# Altium footprint library CM4IO.PcbLib: 11 footprints
Each footprint in its own frame and in the unit in brackets; x right, y up, seen from the top. Pads: shape width x height; smd on the part's side, far side on the other; paste and mask are expansions set on the pad; w line width, h text height; cw(c..) or ccw(c..) is an arc to the next point about the centre after c.
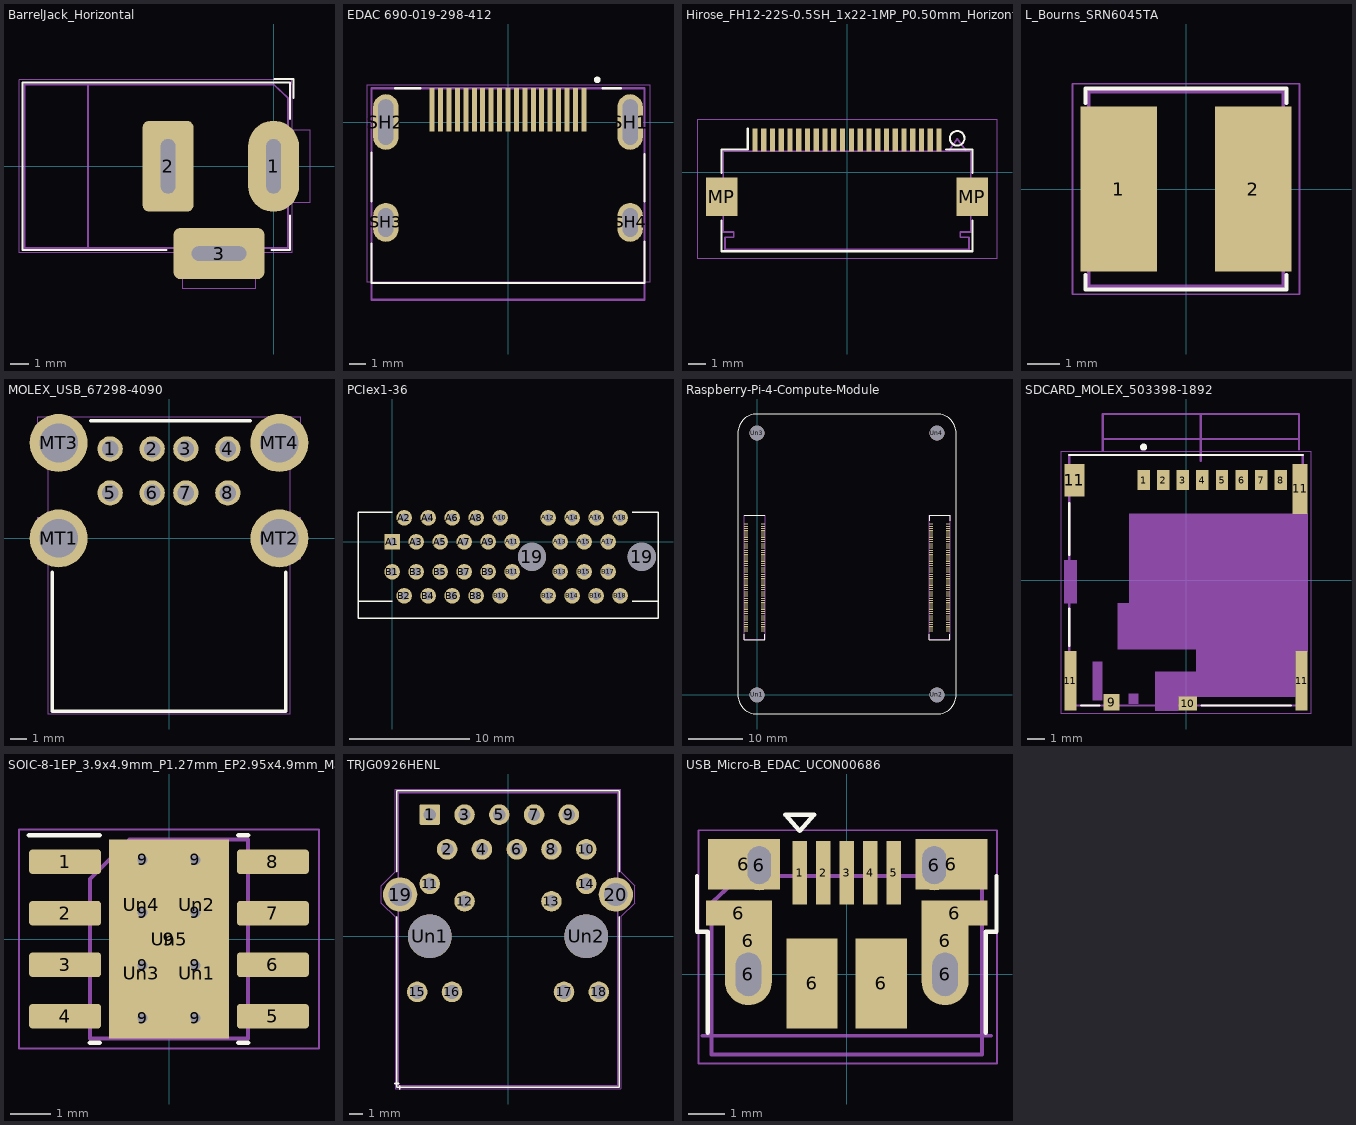
[diagram p0: the footprints below, top view; thin cyan lines are the x and y axes]

## BarrelJack_Horizontal [mm]
pads (3):
  rrect100% 2.8x5 hole 3 slot 0.8 at 0 deg: 1(0,0)
  rrect25% 2.8x5 hole 3 slot 0.8 at 0 deg: 2(-5.8,0)
  rrect25% 5x2.8 hole 0.8 slot 3 at 0 deg: 3(-3,-4.8)
F.SilkS:
  lines w0.12: -5.9,-4.6 -13.8,-4.6 -13.8,4.6 0.9,4.6 0.9,2.6 ; -0.1,-4.6 0.9,-4.6 0.9,-2.7 ; 0.05,4.8 1.1,4.8 1.1,3.75
F.CrtYd:
  lines w0.05: -14,-4.75 -5,-4.75 -5,-6.75 -1,-6.75 -1,-4.75 1,-4.75 1,-2 2,-2 2,2 1,2 1,4.5 1,4.75 -14,4.75 -14,-4.75
F.Fab:
  lines w0.1: -10.2,-4.5 -10.2,4.5 ; -0.003,4.505 0.8,3.75 0.8,-4.5 -13.7,-4.5 -13.7,4.5 0,4.5
  text "'.Designator'" at -4.862,2.532 h1

## EDAC 690-019-298-412 [mm]
pads (23):
  rect 0.3x2.6 smd: 1(4.5,0.73) 2(4,0.73) 3(3.5,0.73) 4(3,0.73) 5(2.5,0.73) 6(2,0.73) 7(1.5,0.73) 8(1,0.73) 9(0.5,0.73) 10(0,0.73) 11(-0.5,0.73) 12(-1,0.73) 13(-1.5,0.73) 14(-2,0.73) 15(-2.5,0.73) 16(-3,0.73) 17(-3.5,0.73) 18(-4,0.73) 19(-4.5,0.73)
  rrect100% 1.5x3.3 hole 2.7 slot 0.9 at 0 deg: SH1(7.25,0) SH2(-7.25,0)
  rrect100% 1.5x2.3 hole 1.7 slot 0.9 at 0 deg: SH3(-7.25,-5.96) SH4(7.25,-5.96)
F.SilkS:
  circle w0.2: c5.3,2.5 r0.1
  lines w0.127: -8.1,-7.2 -8.1,-9.55 8.1,-9.55 8.1,-7.1 ; -8.1,-4.7 -8.1,-1.8 ; -6.7,2 -5.2,2 ; 5.6,2 6.7,2 ; 8.1,-4.7 8.1,-1.9
Eco1.User:
  lines w0.05: -8.35,-9.5 -8.35,-8.5 -8.35,2.2 8.4,2.2 8.4,-9.5 -8.35,-9.5
Eco2.User:
  lines w0.127: -8.1,-10.55 -8.1,-8.5 -8.1,2 8.1,2 8.1,-8.5 8.1,-10.55 -8.1,-10.55

## Hirose_FH12-22S-0.5SH_1x22-1MP_P0.50mm_Horizontal [mm]
pads (24):
  rect 0.3x1.3 smd: 1(5.25,1.85) 2(4.75,1.85) 3(4.25,1.85) 4(3.75,1.85) 5(3.25,1.85) 6(2.75,1.85) 7(2.25,1.85) 8(1.75,1.85) 9(1.25,1.85) 10(0.75,1.85) 11(0.25,1.85) 12(-0.25,1.85) 13(-0.75,1.85) 14(-1.25,1.85) 15(-1.75,1.85) 16(-2.25,1.85) 17(-2.75,1.85) 18(-3.25,1.85) 19(-3.75,1.85) 20(-4.25,1.85) 21(-4.75,1.85) 22(-5.25,1.85)
  rect 1.8x2.2 smd: MP(-7.15,-1.4) MP(7.15,-1.4)
F.SilkS:
  circle w0.12: c6.28,1.94 r0.414
  lines w0.12: -7.15,-2.76 -7.15,-4.5 7.15,-4.5 7.15,-2.76 ; -7.15,-0.04 -7.15,1.3 -5.66,1.3 -5.66,2.5 ; 5.66,1.3 7.15,1.3 7.15,-0.04
F.CrtYd:
  lines w0.05: -8.55,-4.9 -8.55,3 8.55,3 8.55,-4.9 -8.55,-4.9
F.Fab:
  lines w0.1: 5.79,1.203 6.29,1.91 6.79,1.203 ; -7.05,-3.4 -7.05,1.2 0,1.2 7.05,1.2 7.05,-3.4 6.45,-3.4 6.45,-3.7 6.95,-3.7 6.95,-4.4 0,-4.4 -6.95,-4.4 -6.95,-3.7 -6.45,-3.7 -6.45,-3.4 -7.05,-3.4
  text "'.Designator'" at -1.862,-4.118 h1

## L_Bourns_SRN6045TA [mm]
pads (2):
  rect 2.35x5.1 smd: 1(-2.075,0) 2(2.075,0)
F.SilkS:
  lines w0.12: -3.1,-2.65 -3.1,-3.1 3.1,-3.1 3.1,-2.65 ; -3.1,2.65 -3.1,3.1 3.1,3.1 3.1,2.65
F.CrtYd:
  lines w0.05: -3.5,-3.25 3.5,-3.25 3.5,3.25 -3.5,3.25 -3.5,-3.25
F.Fab:
  lines w0.1: -3,-3 3,-3 3,3 -3,3 -3,-3
  text "'.Designator'" at 0.418,-1.862 h1

## MOLEX_USB_67298-4090 [mm]
pads (12):
  round 1.5 hole 1: 1(-3.5,5.33) 2(-1,5.33) 3(1,5.33) 4(3.5,5.33) 5(-3.5,2.71) 6(-1,2.71) 7(1,2.71) 8(3.5,2.71)
  round 3.45 hole 2.3: MT1(-6.57,0) MT2(6.57,0) MT3(-6.57,5.68) MT4(6.57,5.68)
F.SilkS:
  lines w0.2: -6.95,-2 -6.95,-10.29 6.95,-10.29 6.95,-2 ; -4.66,7 4.84,7
Eco1.User:
  lines w0.05: -7.8,-1.25 -7.8,1.25 -7.2,1.25 -7.2,4.5 -7.8,4.5 -7.8,7.25 7.8,7.25 7.8,4.5 7.2,4.5 7.2,1.25 7.8,1.25 7.8,-1.25 7.2,-1.25 7.2,-10.45 -7.2,-10.45 -7.2,-1.25 -7.8,-1.25

## PCIex1-36 [mm]
pads (38):
  round 2.35 hole 2.35: 19(11.65,-1.25) 19(20.8,-1.25)
  rect 1.3x1.3 hole 0.7: A1(0,0)
  round 1.3 hole 0.7: A2(1,2) A3(2,0) A4(3,2) A5(4,0) A6(5,2) A7(6,0) A8(7,2) A9(8,0) A10(9,2) A11(10,0) A12(13,2) A13(14,0) A14(15,2) A15(16,0) A16(17,2) A17(18,0) A18(19,2) B1(0,-2.5) B2(1,-4.5) B3(2,-2.5) B4(3,-4.5) B5(4,-2.5) B6(5,-4.5) B7(6,-2.5) B8(7,-4.5) B9(8,-2.5) B10(9,-4.5) B11(10,-2.5) B12(13,-4.5) B13(14,-2.5) B14(15,-4.5) B15(16,-2.5) B16(17,-4.5) B17(18,-2.5) B18(19,-4.5)
F.SilkS:
  lines w0.12: -2.85,-4.95 0,-4.95 ; 0,2.45 -2.85,2.45 -2.85,-6.35 22.15,-6.35 22.15,2.45 20,2.45 ; 20,-4.95 22.15,-4.95

## Raspberry-Pi-4-Compute-Module [mm]
pads (204):
  rect 0.7x0.2 smd: 1(-2,31.3) 2(1.08,31.3) 3(-2,30.9) 4(1.08,30.9) 5(-2,30.5) 6(1.08,30.5) 7(-2,30.1) 8(1.08,30.1) 9(-2,29.7) 10(1.08,29.7) 11(-2,29.3) 12(1.08,29.3) 13(-2,28.9) 14(1.08,28.9) 15(-2,28.5) 16(1.08,28.5) 17(-2,28.1) 18(1.08,28.1) 19(-2,27.7) 20(1.08,27.7) 21(-2,27.3) 22(1.08,27.3) 23(-2,26.9) 24(1.08,26.9) 25(-2,26.5) 26(1.08,26.5) 27(-2,26.1) 28(1.08,26.1) 29(-2,25.7) 30(1.08,25.7) 31(-2,25.3) 32(1.08,25.3) 33(-2,24.9) 34(1.08,24.9) 35(-2,24.5) 36(1.08,24.5) 37(-2,24.1) 38(1.08,24.1) 39(-2,23.7) 40(1.08,23.7) 41(-2,23.3) 42(1.08,23.3) 43(-2,22.9) 44(1.08,22.9) 45(-2,22.5) 46(1.08,22.5) 47(-2,22.1) 48(1.08,22.1) 49(-2,21.7) 50(1.08,21.7) 51(-2,21.3) 52(1.08,21.3) 53(-2,20.9) 54(1.08,20.9) 55(-2,20.5) 56(1.08,20.5) 57(-2,20.1) 58(1.08,20.1) 59(-2,19.7) 60(1.08,19.7) 61(-2,19.3) 62(1.08,19.3) 63(-2,18.9) 64(1.08,18.9) 65(-2,18.5) 66(1.08,18.5) 67(-2,18.1) 68(1.08,18.1) 69(-2,17.7) 70(1.08,17.7) 71(-2,17.3) 72(1.08,17.3) 73(-2,16.9) 74(1.08,16.9) 75(-2,16.5) 76(1.08,16.5) 77(-2,16.1) 78(1.08,16.1) 79(-2,15.7) 80(1.08,15.7) 81(-2,15.3) 82(1.08,15.3) 83(-2,14.9) 84(1.08,14.9) 85(-2,14.5) 86(1.08,14.5) 87(-2,14.1) 88(1.08,14.1) 89(-2,13.7) 90(1.08,13.7) 91(-2,13.3) 92(1.08,13.3) 93(-2,12.9) 94(1.08,12.9) 95(-2,12.5) 96(1.08,12.5) 97(-2,12.1) 98(1.08,12.1) 99(-2,11.7) 100(1.08,11.7) 101(31.92,31.3) 102(35,31.3) 103(31.92,30.9) 104(35,30.9) 105(31.92,30.5) 106(35,30.5) 107(31.92,30.1) 108(35,30.1) 109(31.92,29.7) 110(35,29.7) 111(31.92,29.3) 112(35,29.3) 113(31.92,28.9) 114(35,28.9) 115(31.92,28.5) 116(35,28.5) 117(31.92,28.1) 118(35,28.1) 119(31.92,27.7) 120(35,27.7) 121(31.92,27.3) 122(35,27.3) 123(31.92,26.9) 124(35,26.9) 125(31.92,26.5) 126(35,26.5) 127(31.92,26.1) 128(35,26.1) 129(31.92,25.7) 130(35,25.7) 131(31.92,25.3) 132(35,25.3) 133(31.92,24.9) 134(35,24.9) 135(31.92,24.5) 136(35,24.5) 137(31.92,24.1) 138(35,24.1) 139(31.92,23.7) 140(35,23.7) 141(31.92,23.3) 142(35,23.3) 143(31.92,22.9) 144(35,22.9) 145(31.92,22.5) 146(35,22.5) 147(31.92,22.1) 148(35,22.1) 149(31.92,21.7) 150(35,21.7) 151(31.92,21.3) 152(35,21.3) 153(31.92,20.9) 154(35,20.9) 155(31.92,20.5) 156(35,20.5) 157(31.92,20.1) 158(35,20.1) 159(31.92,19.7) 160(35,19.7) 161(31.92,19.3) 162(35,19.3) 163(31.92,18.9) 164(35,18.9) 165(31.92,18.5) 166(35,18.5) 167(31.92,18.1) 168(35,18.1) 169(31.92,17.7) 170(35,17.7) 171(31.92,17.3) 172(35,17.3) 173(31.92,16.9) 174(35,16.9) 175(31.92,16.5) 176(35,16.5) 177(31.92,16.1) 178(35,16.1) 179(31.92,15.7) 180(35,15.7) 181(31.92,15.3) 182(35,15.3) 183(31.92,14.9) 184(35,14.9) 185(31.92,14.5) 186(35,14.5) 187(31.92,14.1) 188(35,14.1) 189(31.92,13.7) 190(35,13.7) 191(31.92,13.3) 192(35,13.3) 193(31.92,12.9) 194(35,12.9) 195(31.92,12.5) 196(35,12.5) 197(31.92,12.1) 198(35,12.1) 199(31.92,11.7) 200(35,11.7)
  round 2.7 hole 2.7: Un1(0,0) Un2(33,0) Un3(0,48) Un4(33,48)
F.SilkS:
  lines w0.12: -2.35,11.1 -2.35,10.1 1.43,10.1 1.43,11.1 ; -2.35,32.9 1.43,32.9 ; 31.57,11.1 31.57,10.1 35.35,10.1 35.35,11.1 ; 31.57,31.9 31.57,32.9 35.35,32.9 35.35,31.9 ; -3.5,0 -3.5,48 cw(c0,48) 0,51.5 33,51.5 cw(c33,48) 36.5,48 36.5,0 cw(c33,0) 33,-3.5 0,-3.5 cw(c0,0) -3.5,0
F.CrtYd:
  lines w0.12: -2.35,10.1 1.43,10.1 1.43,32.9 -2.35,32.9 -2.35,10.1 ; 31.57,10.1 31.57,32.9 35.35,32.9 35.35,10.1 31.57,10.1

## SDCARD_MOLEX_503398-1892 [mm]
pads (14):
  rect 0.7x1.1 smd: 1(-2.38,5.625) 2(-1.28,5.625) 3(-0.18,5.625) 4(0.92,5.625) 5(2.02,5.625) 6(3.12,5.625) 7(4.22,5.625) 8(5.32,5.625)
  rect 0.9x0.93 smd: 9(-4.17,-6.84)
  rect 1.05x0.78 smd: 10(0.095,-6.915)
  rect 0.7x3.33 smd: 11(-6.48,-5.64) 11(6.48,-5.64)
  rect 1.14x1.83 smd: 11(-6.26,5.61)
  rect 0.86x2.8 smd: 11(6.4,5.125)
F.SilkS:
  circle w0.2: c-2.38,7.475 r0.1
  lines w0.127: -6.55,-3.675 -6.55,-1.575 ; -6.55,1.425 -6.55,4.325 ; -6.55,7.025 6.55,7.025 ; -5.876,-7.025 -4.874,-7.025 ; 0.874,-7.025 5.876,-7.025
Dwgs.User:
  region: -4.685,-6.738 -5.245,-6.738 -5.245,-4.575 -4.685,-4.575
  region: -6.13,-1.276 -6.836,-1.276 -6.836,1.125 -6.13,1.125
  region: -2.67,-6.93 -3.223,-6.93 -3.223,-6.375 -2.67,-6.375
  region: 6.83,-3.975 6.13,-3.975 6.13,-6.525 -0.43,-6.525 -0.43,-7.305 -1.73,-7.305 -1.73,-5.125 0.57,-5.125 0.57,-3.875 -3.82,-3.875 -3.82,-1.275 -3.17,-1.275 -3.17,3.725 6.83,3.725
  region: -6.13,-1.277 -6.842,-1.277 -6.842,1.125 -6.13,1.125
  region: -4.685,-6.73 -5.239,-6.73 -5.239,-4.575 -4.685,-4.575
  region: -2.67,-6.937 -3.225,-6.937 -3.225,-6.375 -2.67,-6.375
  region: 6.83,-3.975 6.13,-3.975 6.13,-6.525 -0.43,-6.525 -0.43,-7.305 -1.73,-7.305 -1.73,-5.125 0.57,-5.125 0.57,-3.875 -3.82,-3.875 -3.82,-1.275 -3.17,-1.275 -3.17,3.725 6.83,3.725
  lines w0.12: -4.67,7.28 -4.67,9.33 6.33,9.33 6.33,7.35 ; -4.67,7.93 6.33,7.93 ; 0.83,6.7 0.83,9.33
F.CrtYd:
  lines w0.05: -7,-7.5 7,-7.5 7,7.25 -7,7.25 -7,-7.5
F.Fab:
  circle w0.2: c-2.38,5.775 r0.1
  lines w0.127: -6.55,-7.025 6.55,-7.025 6.55,7.025 -6.55,7.025 -6.55,-7.025

## SOIC-8-1EP_3.9x4.9mm_P1.27mm_EP2.95x4.9mm_Mask2.71x3.4mm_ThermalVias [mm]
pads (23):
  rrect25% 1.775x0.6 smd: 1(-2.562,1.905) 2(-2.562,0.635) 3(-2.562,-0.635) 4(-2.562,-1.905) 5(2.562,-1.905) 6(2.562,-0.635) 7(2.562,0.635) 8(2.562,1.905)
  round 0.5 hole 0.25: 9(-0.65,-1.95) 9(-0.65,-0.65) 9(-0.65,0.65) 9(-0.65,1.95) 9(0.65,-1.95) 9(0.65,-0.65) 9(0.65,0.65) 9(0.65,1.95)
  rect 1.8x4.4 smd far side: 9(0,0)
  rect 2.95x4.9 smd: 9(0,0)
  rrect22% 1.13x1.42 on Top Paste: Un1(0.68,-0.85) Un2(0.68,0.85) Un3(-0.68,-0.85) Un4(-0.68,0.85)
  rect 2.71x3.4 on Top Solder: Un5(0,0)
F.SilkS:
  lines w0.12: -3.45,2.56 -1.711,2.56 ; -1.95,-2.56 -1.711,-2.56 ; 1.711,-2.56 1.95,-2.56 ; 1.711,2.56 1.95,2.56
F.CrtYd:
  lines w0.05: -3.7,-2.7 -3.7,2.7 3.7,2.7 3.7,-2.7 -3.7,-2.7
F.Fab:
  lines w0.1: -1.95,-2.45 1.95,-2.45 1.95,2.45 -0.975,2.45 -1.95,1.475 -1.95,-2.45
  text "'.Designator'" at -1.817,-0.408 h0.98

## TRJG0926HENL [mm]
pads (22):
  rrect17% 1.5x1.5 hole 0.9: 1(-5.715,8.89)
  round 1.5 hole 0.9: 2(-4.445,6.35) 3(-3.175,8.89) 4(-1.905,6.35) 5(-0.635,8.89) 6(0.635,6.35) 7(1.905,8.89) 8(3.175,6.35) 9(4.445,8.89) 10(5.715,6.35) 11(-5.715,3.83) 12(-3.175,2.56) 13(3.175,2.56) 14(5.715,3.83)
  round 1.5 hole 1.02: 15(-6.63,-4.06) 16(-4.09,-4.06) 17(4.09,-4.06) 18(6.63,-4.06)
  round 2.5 hole 1.7: 19(-7.875,3.05) 20(7.875,3.05)
  round 3.2 hole 3.2: Un1(-5.715,0) Un2(5.715,0)
F.SilkS:
  lines w0.12: -8.25,-10.75 -8,-10.75 ; -8.12,1.43 -8.12,-11.02 8.12,-11.02 8.12,1.43 ; -8.12,4.71 -8.12,10.62 8.12,10.62 8.12,4.71 ; -7.9,-11.15 -7.9,-10.9
F.CrtYd:
  lines w0.05: -8.25,10.75 8.25,10.75 8.25,4.71 9.25,3.71 9.25,2.43 8.25,1.43 8.25,-11.15 -8.25,-11.15 -8.25,1.43 -9.25,2.43 -9.25,3.71 -8.25,4.71 -8.25,10.76
F.Fab:
  lines w0.1: -8,0 -8,10.5 8,10.5 8,-10.9 -8,-10.9 -8,5.37
  text "'.Designator'" at -1.862,-0.418 h1

## USB_Micro-B_EDAC_UCON00686 [mm]
pads (17):
  rect 0.4x1.75 smd: 1(-1.3,2.82) 2(-0.65,2.82) 3(0,2.82) 4(0.65,2.82) 5(1.3,2.82)
  rect 1.825x0.7 smd: 6(-2.987,1.7) 6(2.987,1.7)
  rect 2x1.4 smd: 6(-2.85,3.06) 6(2.9,3.06)
  rrect100% 1.3x1.7 hole 0.7 slot 1.2 at 90 deg: 6(-2.725,0) 6(2.725,0)
  rect 1.3x2 smd: 6(-2.725,0.93) 6(2.725,0.93)
  rrect100% 1x1.4 hole 0.65 slot 1.05 at 90 deg: 6(-2.425,3.03) 6(2.425,3.03)
  rect 1.425x2.5 smd: 6(-0.962,-0.25) 6(0.962,-0.25)
F.SilkS:
  lines w0.12: -4.15,2.73 -4.15,1.18 -3.85,1.18 -3.85,-1.62 ; 3.85,-1.62 3.85,1.18 4.15,1.18 4.15,2.73 ; -1.7,4.43 -0.9,4.43 -1.3,3.98 -1.7,4.43
Dwgs.User:
  lines w0.1: -4,-1.7 4,-1.7
  text "PCB edge" at -0.722,-1.329 h0.5
F.CrtYd:
  lines w0.05: -4.105,-2.465 -4.105,3.995 4.165,3.995 4.165,-2.465 -4.105,-2.465
F.Fab:
  lines w0.12: -3.75,-2.22 3.75,-2.22 3.75,2.73 -2.95,2.73 -3.75,1.98 -3.75,-2.22
  text "'.Designator'" at -1.862,0.712 h1